# EAGLE library part 691314520108 (library Wuerth_Elektronik_eiCan_Terminal_Blocks_v2.0)
WR-TBL Serie 314 - 5.08mm Close 45° PCB Header with Flanges , 8 pins
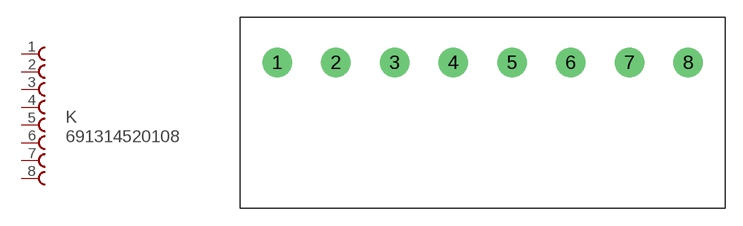
[diagram p154: symbol with the pads of 691314520108; footprint 691314520108]

Designator prefix K

## 691314520108  [691314520108]
1  1  pas
2  2  pas
3  3  pas
4  4  pas
5  5  pas
6  6  pas
7  7  pas
8  8  pas

## Footprint 691314520108 (pad centres in mm)
WR-TBL Serie 314 - 5.08mm Close 45° PCB Header with Flanges , 8 pins
drill 1.7 round: 1 -30.48,0; 2 -25.4,0; 3 -20.32,0; 4 -15.24,0; 5 -10.16,0; 6 -5.08,0; 7 0,0; 8 5.08,0